# EAGLE library part YDA138 (library YDA138)
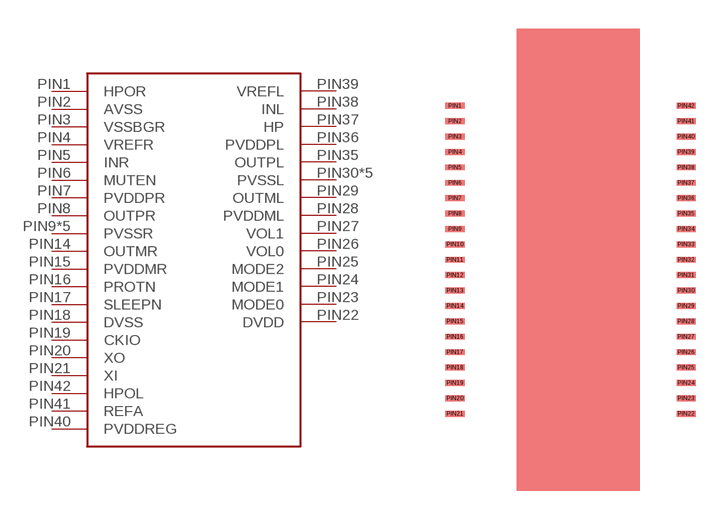
[diagram p0: symbol with the pads of YDA138; footprint YDA138]

Designator prefix -

## YDA138  [YDA138]
PIN1  HPOR
PIN2  AVSS
PIN3  VSSBGR
PIN4  VREFR
PIN5  INR
PIN6  MUTEN
PIN7  PVDDPR
PIN8  OUTPR
PIN9  PVSSR
PIN10  PVSSR
PIN11  PVSSR
PIN12  PVSSR
PIN13  PVSSR
PIN14  OUTMR
PIN15  PVDDMR
PIN16  PROTN
PIN17  SLEEPN
PIN18  DVSS
PIN19  CKIO
PIN20  XO
PIN21  XI
PIN22  DVDD
PIN23  MODE0
PIN24  MODE1
PIN25  MODE2
PIN26  VOL0
PIN27  VOL1
PIN28  PVDDML
PIN29  OUTML
PIN30  PVSSL
PIN31  PVSSL
PIN32  PVSSL
PIN33  PVSSL
PIN34  PVSSL
PIN35  OUTPL
PIN36  PVDDPL
PIN37  HP
PIN38  INL
PIN39  VREFL
PIN40  PVDDREG
PIN41  REFA
PIN42  HPOL

## Footprint YDA138 (pad centres in mm)
smd 1 x 0.305: PIN1 -0.8,0; PIN2 -0.8,-0.8; PIN3 -0.8,-1.6; PIN4 -0.8,-2.4; PIN5 -0.8,-3.2; PIN6 -0.8,-4; PIN7 -0.8,-4.8; PIN8 -0.8,-5.6; PIN9 -0.8,-6.4; PIN10 -0.8,-7.2; PIN11 -0.8,-8; PIN12 -0.8,-8.8; PIN13 -0.8,-9.6; PIN14 -0.8,-10.4; PIN15 -0.8,-11.2; PIN16 -0.8,-12; PIN17 -0.8,-12.8; PIN18 -0.8,-13.6; PIN19 -0.8,-14.4; PIN20 -0.8,-15.2; PIN21 -0.8,-16; PIN22 11.2,-16; PIN23 11.2,-15.2; PIN24 11.2,-14.4; PIN25 11.2,-13.6; PIN26 11.2,-12.8; PIN27 11.2,-12; PIN28 11.2,-11.2; PIN29 11.2,-10.4; PIN30 11.2,-9.6; PIN31 11.2,-8.8; PIN32 11.2,-8; PIN33 11.2,-7.2; PIN34 11.2,-6.4; PIN35 11.2,-5.6; PIN36 11.2,-4.8; PIN37 11.2,-4; PIN38 11.2,-3.2; PIN39 11.2,-2.4; PIN40 11.2,-1.6; PIN41 11.2,-0.8; PIN42 11.2,0